# Altium schematic symbol library Capacitor.SchLib: 19 symbols
Pins are listed as number, name and electrical type; pins without a type are passive.

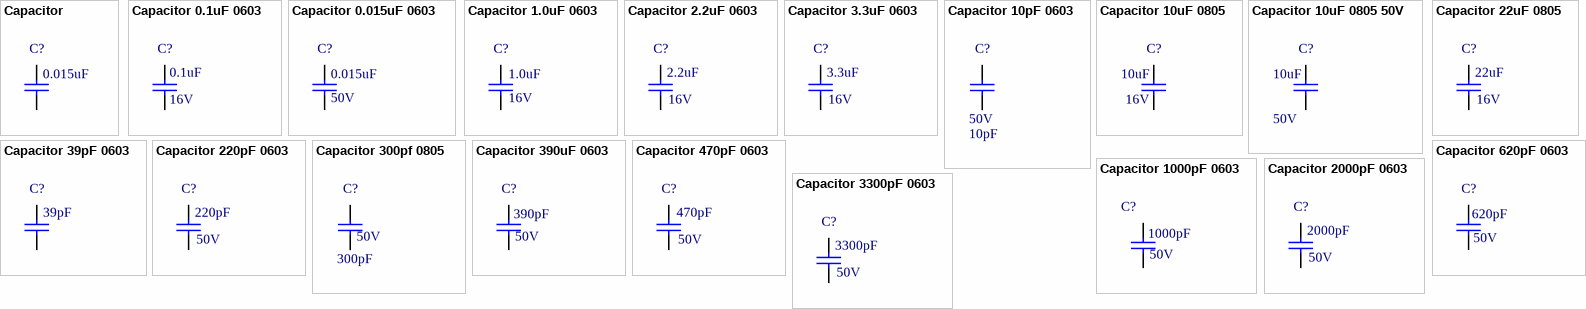
[diagram p0: symbols Capacitor to Capacitor 3300pF 0603]

## Capacitor
designator C?  value 0.015uF  (hidden comment: Capacitor)
Generic Capacitor; Voltage: 50V
footprint SMT 0603 (1608)
pins: 1, 2

## Capacitor 0.1uF 0603
designator C?  value 0.1uF  Voltage: 16V
Capacitor 0.1uF 16V Surface Mount 0603; Supplier 1: Digi-Key; Supplier Part Number 1: 1276-1005-1-ND
footprint SMT 0603 (1608)
pins: 1, 2

## Capacitor 0.015uF 0603
designator C?  value 0.015uF  Voltage: 50V  (hidden comment: Capacitor 0.015uF 0603)
Capacitor 0.015uF Surface Mount 0603; Supplier 1: Digi-Key; Supplier Part Number 1: 1276-1277-1-ND
footprint SMT 0603 (1608)
pins: 1, 2

## Capacitor 1.0uF 0603
designator C?, comment value 1.0uF  Voltage: 16V  (hidden comment: Capacitor 1.0uF)
Capacitor 1.0uF Surface Mount 0603; Supplier 1: Digi-Key; Supplier Part Number 1: 1276-1019-1-ND
footprint SMT 0603 (1608)
pins: 1, 2

## Capacitor 2.2uF 0603
designator C?, comment value 2.2uF  Voltage: 16V  (hidden comment: Capacitor 2.2uF)
Capacitor 2.2uF Surface Mount 0603; Supplier 1: Digi-Key; Supplier Part Number 1: 1276-1040-1-ND
footprint SMT 0603 (1608)
pins: 1, 2

## Capacitor 3.3uF 0603
designator C?, comment value 3.3uF  Voltage: 16V  (hidden comment: Capacitor 3.3uF)
Capacitor 3.3uF Surface Mount 0603; Supplier 1: Digi-Key; Supplier Part Number 1: 445-7476-1-ND
footprint SMT 0603 (1608)
pins: 1, 2

## Capacitor 10pF 0603
designator C?  value 10pF  Voltage: 50V  (hidden comment: *)
Capacitor 10pF Surface Mount 0603; Supplier 1: Digi-Key; Supplier Part Number 1: 1276-1027-1-ND
footprint SMT 0603 (1608)
pins: 1, 2

## Capacitor 10uF 0805
designator C?  value 10uF  Voltage: 16V
Capacitor 10uF Surface Mount 0805; Supplier Part Number 1: 1276-1096-1-ND; Supplier 1: Digi-Key
footprint SMT 0805 (2012) (SMT 0805(2012))
pins: 1, 2

## Capacitor 10uF 0805 50V
designator C?  value 10uF  Voltage: 50V
Capacitor 10uF Surface Mount 0805; Supplier 1: Farnell; Supplier Part Number 1: 1867958
footprint SMT 0805 (2012) (SMT 0805(2012))
pins: 1, 2

## Capacitor 22uF 0805
designator C?, comment value 22uF  Voltage: 16V  (hidden comment: Capacitor 22uF)
Capacitor 22uF Surface Mount 0805; Supplier 1: Digi-Key; Supplier Part Number 1: 445-6797-1-ND
footprint SMT 0805 (2012) (SMT 0805(2012))
pins: 1, 2

## Capacitor 39pF 0603
designator C?, comment value 39pF  (hidden comment: Capacitor 39pF)
Capacitor 39pF Surface Mount 0603; Voltage: 50V; Supplier 1: Digi-Key; Supplier Part Number 1: 1276-1016-1-ND
footprint SMT 0603 (1608)
pins: 1, 2

## Capacitor 220pF 0603
designator C?, comment value 220pF  Voltage: 50V  (hidden comment: Capacitor 220pF)
Capacitor 220pF Surface Mount 0603; Supplier 1: Digi-Key; Supplier Part Number 1: 1276-1985-1-ND
footprint SMT 0603 (1608)
pins: 1, 2

## Capacitor 300pf 0805
designator C?, comment value 300pF  Voltage: 50V  (hidden comment: Capacitor 300pF)
Capacitor 300pF Surface Mount 0805; Supplier 1: Farnell; Supplier Part Number 1: 2332767
footprint SMT 0805 (2012) (SMT 0805(2012))
pins: 1, 2

## Capacitor 390uF 0603
designator C?, comment value 390pF  Voltage: 50V  (hidden comment: Capacitor 390uF)
Capacitor 390uF Surface Mount 0603; Supplier 1: Digi-Key; Supplier Part Number 1: 311-1187-1-ND
footprint SMT 0603 (1608)
pins: 1, 2

## Capacitor 470pF 0603
designator C?, comment value 470pF  Voltage: 50V  (hidden comment: Capacitor 470pF)
Capacitor 470pF Surface Mount 0603; Supplier 1: Digi-Key; Supplier Part Number 1: 1276-2058-1-ND
footprint SMT 0603 (1608)
pins: 1, 2

## Capacitor 620pF 0603
designator C?, comment value 620pF  Voltage: 50V  (hidden comment: Capacitor 620pF)
Capacitor 620pF Surface Mount 0603; Supplier 1: Digi-Key; Supplier Part Number 1: 490-1446-1-ND
footprint SMT 0603 (1608)
pins: 1, 2

## Capacitor 1000pF 0603
designator C?, comment value 1000pF  Voltage: 50V  (hidden comment: Capacitor 1000pF)
Capacitor 1000pF Surface Mount 0603; Supplier 1: Digi-Key; Supplier Part Number 1: 1276-1018-1-ND
footprint SMT 0603 (1608)
pins: 1, 2

## Capacitor 2000pF 0603
designator C?, comment value 2000pF  Voltage: 50V  (hidden comment: Capacitor 2000pF)
Capacitor 2000pF Surface Mount 0603; Supplier 1: Digi-Key; Supplier Part Number 1: 490-1458-1-ND
footprint SMT 0603 (1608)
pins: 1, 2

## Capacitor 3300pF 0603
designator C?, comment value 3300pF  Voltage: 50V  (hidden comment: Capacitor 3300pF)
Capacitor 3300pF Surface Mount 0603; Supplier 1: Digi-Key; Supplier Part Number 1: 1276-2030-1-ND
footprint SMT 0603 (1608)
pins: 1, 2